# Altium schematic symbol library Devboards.SchLib: 4 symbols
Pins are listed as number, name and electrical type; pins without a type are passive.

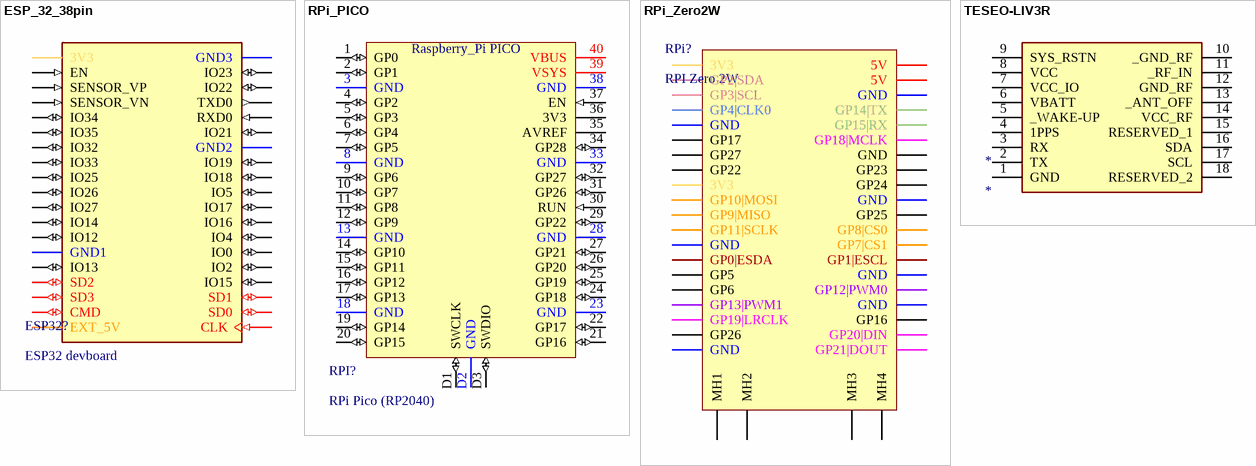
[diagram p0: symbols ESP_32_38pin to TESEO-LIV3R]

## ESP_32_38pin
designator ESP32?, comment ESP32 devboard
footprint ESP_32_38
pins: J2-1 3V3 (power), J2-2 EN (in), J2-3 SENSOR_VP (in), J2-4 SENSOR_VN (in), J2-5 IO34 (io), J2-6 IO35 (io), J2-7 IO32 (io), J2-8 IO33 (io), J2-9 IO25 (io), J2-10 IO26 (io), J2-11 IO27 (io), J2-12 IO14 (io), J2-13 IO12 (io), J2-14 GND1 (power), J2-15 IO13 (io), J2-16 SD2 (io), J2-17 SD3 (io), J2-18 CMD (io), J2-19 EXT_5V (power), J3-1 GND3 (power), J3-2 IO23 (io), J3-3 IO22 (io), J3-4 TXD0 (out), J3-5 RXD0 (in), J3-6 IO21 (io), J3-7 GND2 (power), J3-8 IO19 (io), J3-9 IO18 (io), J3-10 IO5 (io), J3-11 IO17 (io), J3-12 IO16 (io), J3-13 IO4 (io), J3-14 IO0 (io), J3-15 IO2 (io), J3-16 IO15 (io), J3-17 SD1 (io), J3-18 SD0 (io), J3-19 CLK (in)

## RPi_PICO
designator RPI?, comment RPi Pico (RP2040)
WARNING : Headers are not included in the BOM for the TH footprint.
footprint RPI_PICO_SMT
footprint RPI_PICO_TH
pins: 1 GP0 (io), 2 GP1 (io), 3 GND (power), 4 GP2 (io), 5 GP3 (io), 6 GP4 (io), 7 GP5 (io), 8 GND (power), 9 GP6 (io), 10 GP7 (io), 11 GP8 (io), 12 GP9 (io), 13 GND (power), 14 GP10 (io), 15 GP11 (io), 16 GP12 (io), 17 GP13 (io), 18 GND (power), 19 GP14 (io), 20 GP15 (io), 21 GP16 (io), 22 GP17 (io), 23 GND (power), 24 GP18 (io), 25 GP19 (io), 26 GP20 (io), 27 GP21 (io), 28 GND (power), 29 GP22 (io), 30 RUN (in), 31 GP26 (io), 32 GP27 (io), 33 GND (power), 34 GP28 (io), 35 AVREF (power), 36 3V3 (power), 37 EN (in), 38 GND (power), 39 VSYS (power), 40 VBUS (power), D1 SWCLK (io), D2 GND (power), D3 SWDIO (io)
text: Raspberry_Pi PICO

## RPi_Zero2W
designator RPi?, comment RPI Zero 2W
footprint RPI_Zero2W
pins: 1 3V3, 2 5V, 3 GP2|SDA, 4 5V, 5 GP3|SCL, 6 GND, 7 GP4|CLK0, 8 GP14|TX, 9 GND, 10 GP15|RX, 11 GP17, 12 GP18|MCLK, 13 GP27, 14 GND, 15 GP22, 16 GP23, 17 3V3, 18 GP24, 19 GP10|MOSI, 20 GND, 21 GP9|MISO, 22 GP25, 23 GP11|SCLK, 24 GP8|CS0, 25 GND, 26 GP7|CS1, 27 GP0|ESDA, 28 GP1|ESCL, 29 GP5, 30 GND, 31 GP6, 32 GP12|PWM0, 33 GP13|PWM1, 34 GND, 35 GP19|LRCLK, 36 GP16, 37 GP26, 38 GP20|DIN, 39 GND, 40 GP21|DOUT, MH1, MH2, MH3, MH4

## TESEO-LIV3R
designator *
footprint TESEOLIV3R
pins: 1 GND, 2 TX, 3 RX, 4 1PPS, 5 _WAKE-UP, 6 VBATT, 7 VCC_IO, 8 VCC, 9 SYS_RSTN, 10 _GND_RF, 11 _RF_IN, 12 GND_RF, 13 _ANT_OFF, 14 VCC_RF, 15 RESERVED_1, 16 SDA, 17 SCL, 18 RESERVED_2